# Altium schematic symbol library Connector.SchLib: 11 symbols
Pins are listed as number, name and electrical type; pins without a type are passive.

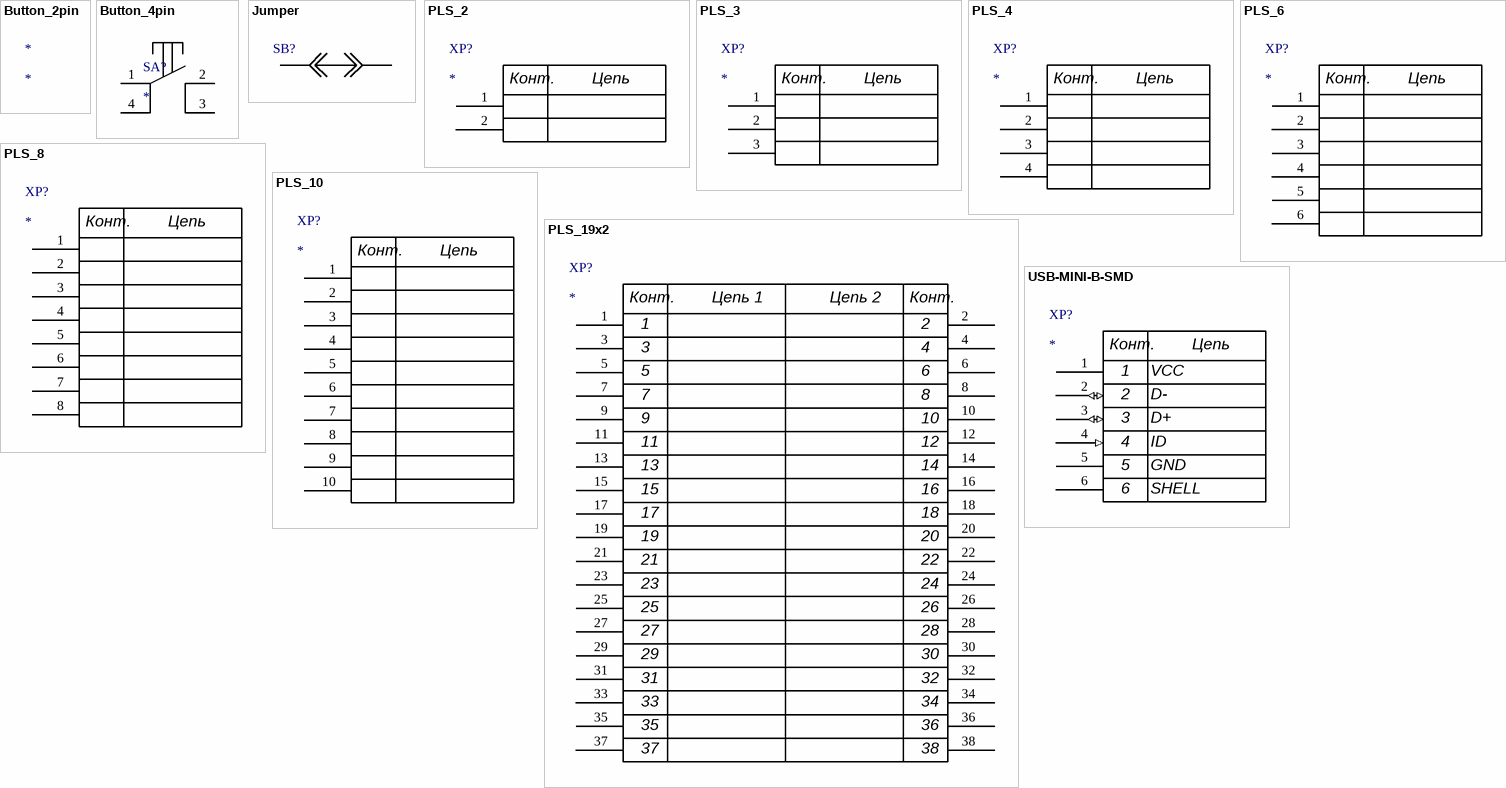
[diagram p0: symbols Button_2pin to USB-MINI-B-SMD]

## Button_2pin
designator *

## Button_4pin
designator SA?
Desc: Выключатель кнопочный нажимной; PartNumber: *; ComponentLink1Description: Source; ComponentLink1URL: *
footprint Button_4pin
pins: 1, 2, 3, 4

## Jumper
designator SB?  (value not drawn)
footprint Jumper
pins: 1, 2

## PLS_2
designator XP?
Desc: Соединение контактное; PartNumber: *
footprint PLS_2
pins: 1, 2
text: Конт.; Цепь

## PLS_3
designator XP?
Desc: Соединение контактное; PartNumber: *
footprint PLS_3
pins: 1, 2, 3
text: Конт.; Цепь

## PLS_4
designator XP?
Desc: Соединение контактное
footprint PLS_4
pins: 1, 2, 3, 4
text: Конт.; Цепь

## PLS_6
designator XP?
Desc: Соединение контактное; PartNumber: *
footprint PLS_6
pins: 1, 2, 3, 4, 5, 6
text: Конт.; Цепь

## PLS_8
designator XP?
Desc: Соединение контактное; PartNumber: *
footprint PLS_8
pins: 1, 2, 3, 4, 5, 6, 7, 8
text: Конт.; Цепь

## PLS_10
designator XP?
Desc: Соединение контактное; PartNumber: *
footprint PLS_10
pins: 1, 2, 3, 4, 5, 6, 7, 8, 9, 10
text: Конт.; Цепь

## PLS_19x2
designator XP?
Desc: Соединение контактное; PartNumber: *; ComponentLink1Description: Source; ComponentLink1URL: *
footprint PLS_19x2
pins: 1, 2, 3, 4, 5, 6, 7, 8, 9, 10, 11, 12, 13, 14, 15, 16, 17, 18, 19, 20, 21, 22, 23, 24, 25, 26, 27, 28, 29, 30, 31, 32, 33, 34, 35, 36, 37, 38
text: Конт.; Цепь 1; Цепь 2

## USB-MINI-B-SMD
designator XP?
PartNumber: 1734035-1; Desc: Разъем mini-USB на плату SMD; ComponentLink1Description: Source; ComponentLink1URL: https://www.chipdip.ru/product/1734035-1-razem-mini-usb-na-platu-smd-te-connectivity-9000149111
footprint USB-MINI-B-SMD
pins: 1, 2 (io), 3 (io), 4 (in), 5, 6
text: Конт.; Цепь; VCC; D-; D+; ID; GND; SHELL